# Altium footprint library KLS2.PcbLib: 2 footprints
Each footprint in its own frame and in the unit in brackets; x right, y up, seen from the top. Pads: shape width x height; smd on the part's side, far side on the other; paste and mask are expansions set on the pad; w line width, h text height; cw(c..) or ccw(c..) is an arc to the next point about the centre after c.
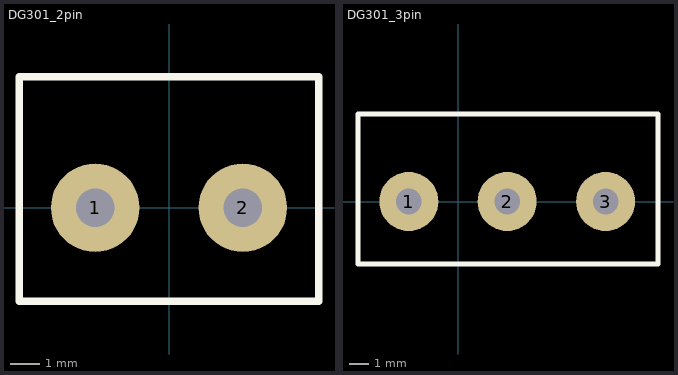
[diagram p0: the footprints below, top view; thin cyan lines are the x and y axes]

## DG301_2pin [mm]
pads (2):
  round 3 hole 1.3: 1(-2.5,0) 2(2.5,0)
Top Overlay:
  lines w0.254: -5.08,0 -5.08,4.445 5.08,4.445 5.08,-3.175 -5.08,-3.175 -5.08,1.27
3D body "User Library-DG301-5_0-2P12.STEP": height 10.1, standoff -4.06, extent -5.6,-3.4 5,4.2

## DG301_3pin [mm]
pads (3):
  round 3 hole 1.3: 1(-2.5,0) 2(2.5,0) 3(7.5,0)
Top Overlay:
  lines w0.254: -5.08,0 -5.08,4.445 10.16,4.445 10.16,-3.175 -5.08,-3.175 -5.08,1.27
3D body "User Library-DG301-5_0-3P12.STEP": height 10.1, standoff -4.06, extent -5.6,-3.4 10,4.2